# Altium footprint library IND_SRN8040TA-3R3Y.PcbLib: 1 footprints
Each footprint in its own frame and in the unit in brackets; x right, y up, seen from the top. Pads: shape width x height; smd on the part's side, far side on the other; paste and mask are expansions set on the pad; w line width, h text height; cw(c..) or ccw(c..) is an arc to the next point about the centre after c.
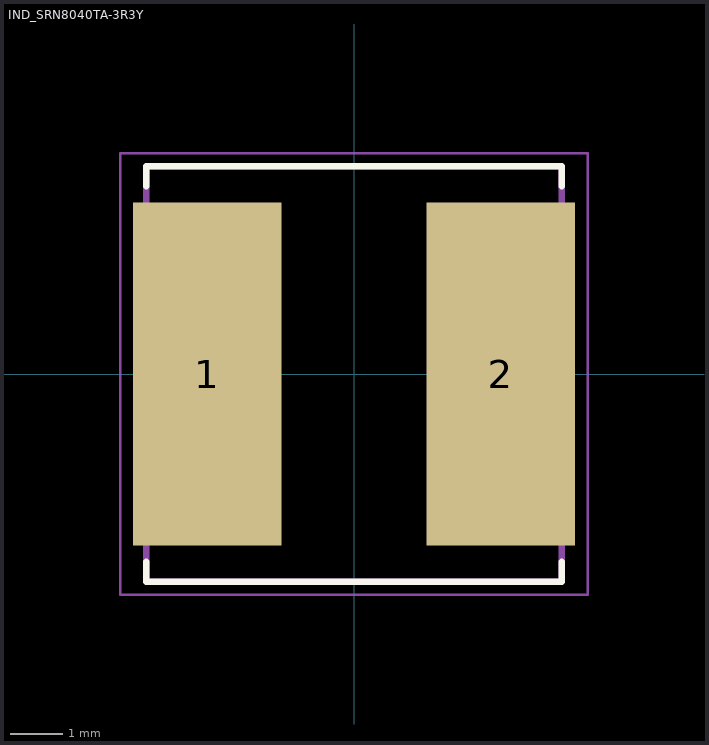
[diagram p0: the footprint, top view; thin cyan lines are the x and y axes]

## IND_SRN8040TA-3R3Y [mm]
pads (2):
  rect 2.85x6.6 smd: 1(-2.825,0) 2(2.825,0)
Top Overlay:
  lines w0.127: -4,-3.615 -4,-4 4,-4 4,-3.615 ; -4,3.615 -4,4 4,4 4,3.615
Mechanical 13:
  lines w0.127: -4,-4 4,-4 4,4 -4,4 -4,-4
Mechanical 15:
  lines w0.05: -4.5,-4.25 -4.5,4.25 4.5,4.25 4.5,-4.25 -4.5,-4.25